# Altium integrated library BSN20.IntLib: 1 symbol
Pins are listed as number, name and electrical type; pins without a type are passive.

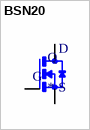
[diagram p0: symbol BSN20]

## BSN20
designator Q
N-Channel 50V 500mA _Ta_ 600mW _Ta_ Surface Mount SOT-23; MF: NXP Semiconductors; MP: BSN20; Package: SC-59 NXP Semiconductors; Digi-Key_Purchase_URL: https://www.digikey.vn/product-detail/en/diodes-incorporated/BSN20-7/BSN20-7DICT-ND/2756060?utm_source=snapeda&utm_medium=aggregator&utm_campaign=symbol; Digi-Key_Part_Number: BSN20-7DICT-ND; Value: *; SnapEDA_Link: https://www.snapeda.com/parts/BSN20/NXP%20Semiconductors/view-part/4299544/?ref=snap
footprint SOT23
pins: 1 G, 2 S, 3 D